# Altium footprint library PcbLib_ThrusterBoard.PcbLib: 2 footprints
Each footprint in its own frame and in the unit in brackets; x right, y up, seen from the top. Pads: shape width x height; smd on the part's side, far side on the other; paste and mask are expansions set on the pad; w line width, h text height; cw(c..) or ccw(c..) is an arc to the next point about the centre after c.
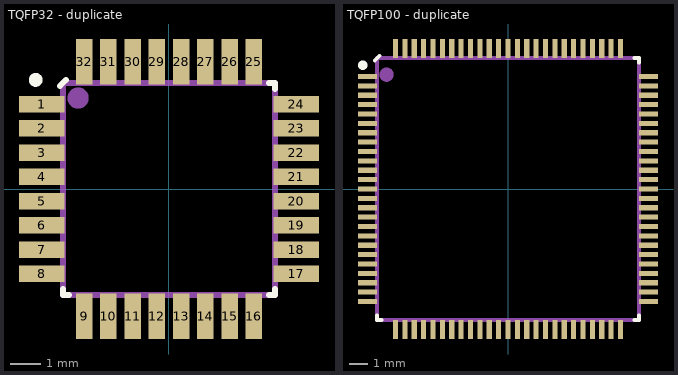
[diagram p0: the footprints below, top view; thin cyan lines are the x and y axes]

## TQFP32 - duplicate [mm]
pads (32):
  rect 1.5x0.55 smd mask+0.06: 1(-4.2,2.8) 2(-4.2,2) 3(-4.2,1.2) 4(-4.2,0.4) 5(-4.2,-0.4) 6(-4.2,-1.2) 7(-4.2,-2) 8(-4.2,-2.8) 17(4.2,-2.8) 18(4.2,-2) 19(4.2,-1.2) 20(4.2,-0.4) 21(4.2,0.4) 22(4.2,1.2) 23(4.2,2) 24(4.2,2.8)
  rect 0.55x1.5 smd mask+0.06: 9(-2.8,-4.2) 10(-2,-4.2) 11(-1.2,-4.2) 12(-0.4,-4.2) 13(0.4,-4.2) 14(1.2,-4.2) 15(2,-4.2) 16(2.8,-4.2) 25(2.8,4.2) 26(2,4.2) 27(1.2,4.2) 28(0.4,4.2) 29(-0.4,4.2) 30(-1.2,4.2) 31(-2,4.2) 32(-2.8,4.2)
Top Overlay:
  circle w0.254: c-4.4,3.6 r0.1
  lines w0.2: -3.6,3.4 -3.4,3.6 ; -3.5,-3.3 -3.5,-3.5 -3.3,-3.5 ; 3.3,-3.5 3.5,-3.5 3.5,-3.3 ; 3.3,3.5 3.5,3.5 3.5,3.3
Mechanical 29:
  circle w0.5: c-3,3 r0.1
  lines w0.2: -3.5,-3.5 3.5,-3.5 3.5,3.5 -3.5,3.5 -3.5,-3.5
  text "'.Designator'" at -2.2,-1 h1.8
3D body "User Library-tqfp32.step": height 1.2, standoff 0, extent -4.599,-4.599 4.599,4.6

## TQFP100 - duplicate [mm]
pads (100):
  rect 1x0.27 smd mask+0.06: 1(-7.5,6) 2(-7.5,5.5) 3(-7.5,5) 4(-7.5,4.5) 5(-7.5,4) 6(-7.5,3.5) 7(-7.5,3) 8(-7.5,2.5) 9(-7.5,2) 10(-7.5,1.5) 11(-7.5,1) 12(-7.5,0.5) 13(-7.5,0) 14(-7.5,-0.5) 15(-7.5,-1) 16(-7.5,-1.5) 17(-7.5,-2) 18(-7.5,-2.5) 19(-7.5,-3) 20(-7.5,-3.5) 21(-7.5,-4) 22(-7.5,-4.5) 23(-7.5,-5) 24(-7.5,-5.5) 25(-7.5,-6) 51(7.5,-6) 52(7.5,-5.5) 53(7.5,-5) 54(7.5,-4.5) 55(7.5,-4) 56(7.5,-3.5) 57(7.5,-3) 58(7.5,-2.5) 59(7.5,-2) 60(7.5,-1.5) 61(7.5,-1) 62(7.5,-0.5) 63(7.5,0) 64(7.5,0.5) 65(7.5,1) 66(7.5,1.5) 67(7.5,2) 68(7.5,2.5) 69(7.5,3) 70(7.5,3.5) 71(7.5,4) 72(7.5,4.5) 73(7.5,5) 74(7.5,5.5) 75(7.5,6)
  rect 0.27x1 smd mask+0.06: 26(-6,-7.5) 27(-5.5,-7.5) 28(-5,-7.5) 29(-4.5,-7.5) 30(-4,-7.5) 31(-3.5,-7.5) 32(-3,-7.5) 33(-2.5,-7.5) 34(-2,-7.5) 35(-1.5,-7.5) 36(-1,-7.5) 37(-0.5,-7.5) 38(0,-7.5) 39(0.5,-7.5) 40(1,-7.5) 41(1.5,-7.5) 42(2,-7.5) 43(2.5,-7.5) 44(3,-7.5) 45(3.5,-7.5) 46(4,-7.5) 47(4.5,-7.5) 48(5,-7.5) 49(5.5,-7.5) 50(6,-7.5) 76(6,7.5) 77(5.5,7.5) 78(5,7.5) 79(4.5,7.5) 80(4,7.5) 81(3.5,7.5) 82(3,7.5) 83(2.5,7.5) 84(2,7.5) 85(1.5,7.5) 86(1,7.5) 87(0.5,7.5) 88(0,7.5) 89(-0.5,7.5) 90(-1,7.5) 91(-1.5,7.5) 92(-2,7.5) 93(-2.5,7.5) 94(-3,7.5) 95(-3.5,7.5) 96(-4,7.5) 97(-4.5,7.5) 98(-5,7.5) 99(-5.5,7.5) 100(-6,7.5)
Top Overlay:
  circle w0.254: c-7.747,6.604 r0.127
  lines w0.2: -7.112,6.858 -6.858,7.112 ; -6.985,-6.731 -6.985,-6.985 -6.731,-6.985 ; 6.731,-6.985 6.985,-6.985 6.985,-6.731 ; 6.731,6.985 6.985,6.985 6.985,6.731
Mechanical 29:
  circle w0.5: c-6.477,6.096 r0.127
  lines w0.2: -6.985,-6.985 6.985,-6.985 6.985,6.985 -6.985,6.985 -6.985,-6.985
  text "'.Designator'" at -4.572,2.794 h1.52
3D body "User Library-TQFP100-1.STEP": height 1.59, standoff -0.03, extent -8,-8 8,8